# EAGLE library part 691403900008 (library Wurth_Terminal_Blocks_Connectors_rev15d)
WR-TBL Terminal block - serie 4039 2,54mm - Spring clamp/Screwless - Vertical wire entry - 08p Code:Con_TBL_Screwless_2.54_6914039000xxB_691403900008 <http://katalog.we-online.de/media/images/eican/Con_TBL_Screwless_2.54_6914039000xxB_pf2.jpg> Details see: http://katalog.we-online.de/en/em/691_403_900_0xxB/691_403_900_008B?m Created 2014-12-22, aslant tao 2014 (C) Würth Elektronik
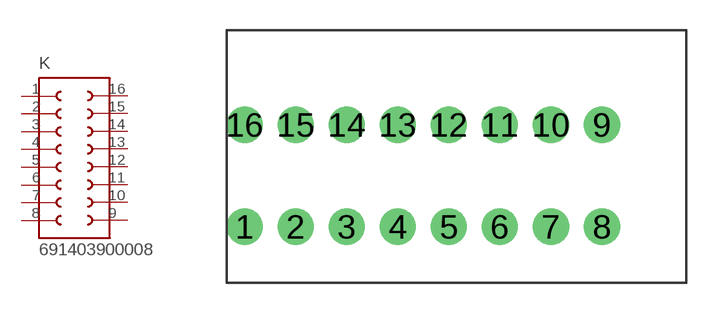
[diagram p212: symbol with the pads of 691403900008; footprint 691403900008]

Designator prefix K

## 691403900008  [691403900008]
1  1  pas
2  2  pas
3  3  pas
4  4  pas
5  5  pas
6  6  pas
7  7  pas
8  8  pas
9  9  pas
10  10  pas
11  11  pas
12  12  pas
13  13  pas
14  14  pas
15  15  pas
16  16  pas

## Footprint 691403900008 (pad centres in mm)
WR-TBL Serie 4039 - 2.54mm Screwless Vertical Entry - 0.5mm2 Wires, 8 Pins
drill 1.2: 1 -2.54,0; 2 0,0; 3 2.54,0; 4 5.08,0; 5 7.62,0; 6 10.16,0; 7 12.7,0; 8 15.24,0; 9 15.24,5.08; 10 12.7,5.08; 11 10.16,5.08; 12 7.62,5.08; 13 5.08,5.08; 14 2.54,5.08; 15 0,5.08; 16 -2.54,5.08